# EAGLE library part PIC_PORTA_IF (library PartsForProto)
PIC GPIO インターフェース
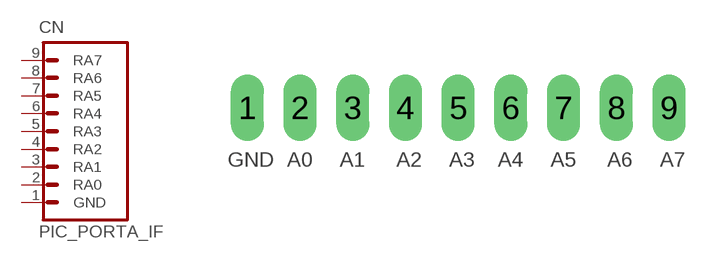
[diagram p14: symbol with the pads of PIC_PORTA_IF_9PIN; footprint PIC_PORTA_IF_9PIN]

Designator prefix CN

## PIC_PORTA_IF  [PIC_PORTA_IF_9PIN]
1  GND  pas
2  RA0
3  RA1
4  RA2
5  RA3
6  RA4
7  RA5
8  RA6
9  RA7

## Footprint PIC_PORTA_IF_9PIN (pad centres in mm)
PIN HEADER
drill 1 pad 1.6 long: 1 0,0; 2 2.54,0; 3 5.08,0; 4 7.62,0; 5 10.16,0; 6 12.7,0; 7 15.24,0; 8 17.78,0; 9 20.32,0